# EAGLE library part DRV8701E (library IC & Transistor)
DRV8701E Brushed DC Motor Full-Bridge Gate Driver. Created by: Wai Weng
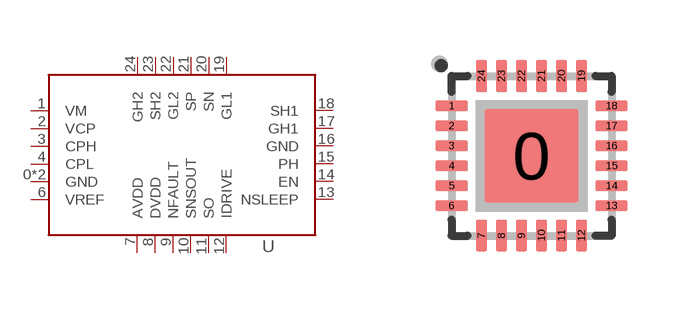
[diagram p35: symbol with the pads of QFN-24; footprint QFN-24]

Designator prefix U

## DRV8701E (CYTRON-PC: S-IC-DRV8701E-QFN24; DESC: S MOSFET Driver DRV8701E QFN-24; MF: Texas Instrument; MPN: DRV8701E)  [QFN-24]
0  GND
1  VM
2  VCP
3  CPH
4  CPL
5  GND
6  VREF
7  AVDD
8  DVDD
9  NFAULT
10  SNSOUT
11  SO
12  IDRIVE
13  NSLEEP
14  EN
15  PH
16  GND
17  GH1
18  SH1
19  GL1
20  SN
21  SP
22  GL2
23  SH2
24  GH2

## Footprint QFN-24 (pad centres in mm)
Quad Flat No-leads Package Size: 4.0mm x 4.0mm Pitch: 0.5mm Created by: Wai Weng
smd 2.35 x 2.35: 0 0,0
smd 0.8 x 0.28: 1 -2,1.25; 2 -2,0.75; 3 -2,0.25; 4 -2,-0.25; 5 -2,-0.75; 6 -2,-1.25; 13 2,-1.25; 14 2,-0.75; 15 2,-0.25; 16 2,0.25; 17 2,0.75; 18 2,1.25
smd 0.28 x 0.8: 7 -1.25,-2; 8 -0.75,-2; 9 -0.25,-2; 10 0.25,-2; 11 0.75,-2; 12 1.25,-2; 19 1.25,2; 20 0.75,2; 21 0.25,2; 22 -0.25,2; 23 -0.75,2; 24 -1.25,2